# Altium schematic symbol library 显示屏及摄像头等.SchLib: 4 symbols
Pins are listed as number, name and electrical type; pins without a type are passive.

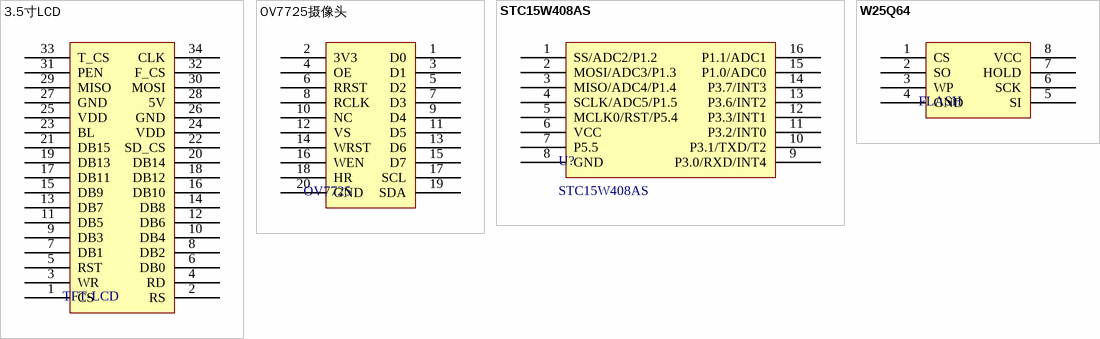
[diagram p0: symbols 3.5寸LCD to W25Q64]

## 3.5寸LCD
designator TFT-LCD
footprint HDR2X17
pins: 1 CS, 2 RS, 3 WR, 4 RD, 5 RST, 6 DB0, 7 DB1, 8 DB2, 9 DB3, 10 DB4, 11 DB5, 12 DB6, 13 DB7, 14 DB8, 15 DB9, 16 DB10, 17 DB11, 18 DB12, 19 DB13, 20 DB14, 21 DB15, 22 SD_CS, 23 BL, 24 VDD, 25 VDD, 26 GND, 27 GND, 28 5V, 29 MISO, 30 MOSI, 31 PEN, 32 F_CS, 33 T_CS, 34 CLK

## OV7725摄像头
designator OV7725  (value not drawn)
footprint HDR2X10
pins: 1 D0, 2 3V3, 3 D1, 4 OE, 5 D2, 6 RRST, 7 D3, 8 RCLK, 9 D4, 10 NC, 11 D5, 12 VS, 13 D6, 14 WRST, 15 D7, 16 WEN, 17 SCL, 18 HR, 19 SDA, 20 GND

## STC15W408AS
designator U?
footprint SOIC127P600X170-16N (SOIC, 16-Leads, Body 8.6x4.0mm (max), Pitch 1.27mm, IPC Medium Density)
pins: 1 SS/ADC2/P1.2, 2 MOSI/ADC3/P1.3, 3 MISO/ADC4/P1.4, 4 SCLK/ADC5/P1.5, 5 MCLK0/RST/P5.4, 6 VCC, 7 P5.5, 8 GND, 9 P3.0/RXD/INT4, 10 P3.1/TXD/T2, 11 P3.2/INT0, 12 P3.3/INT1, 13 P3.6/INT2, 14 P3.7/INT3, 15 P1.0/ADC0, 16 P1.1/ADC1

## W25Q64
designator FLASH  (value not drawn)
footprint LSSOP-8
pins: 1 CS, 2 SO, 3 WP, 4 GND, 5 SI, 6 SCK, 7 HOLD, 8 VCC